# EAGLE library part TDA8496 (library Audio-Power-amlifier V.2.0)
The UTC TDA8496 is a stereo 5+5W class AB power amplifier with mute and dc volume control, assembled in the HZIP-15A/B/D package. It is designed for high quality sound, LCD TV or LCD Monitor applications.
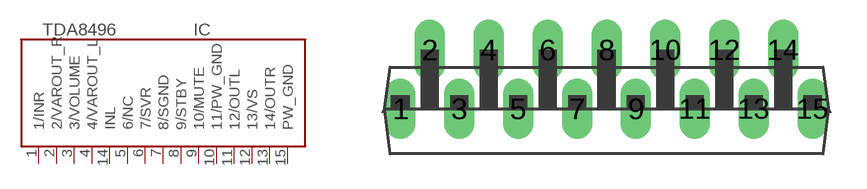
[diagram p214: symbol with the pads of HZIP015-P-0745A-1,27; footprint HZIP015-P-0745A-1,27]

Designator prefix IC

## TDA8496  [HZIP015-P-0745A-1,27]
1  1/INR  in
2  2/VAROUT_R  out
3  3/VOLUME  in
4  4/VAROUT_L  out
5  6/NC  nc
6  7/SVR
7  8/SGND  pwr
8  9/STBY  in
9  10/MUTE  in
10  11/PW_GND  pwr
11  12/OUTL  out
12  13/VS  pwr
13  14/OUTR  out
14  INL  in
15  PW_GND  pwr

## Footprint HZIP015-P-0745A-1,27 (pad centres in mm)
drill 0.8 long: 1 -8.89,-1.27; 2 -7.62,1.27; 3 -6.35,-1.27; 4 -5.08,1.27; 5 -3.81,-1.27; 6 -2.54,1.27; 7 -1.27,-1.27; 8 0,1.27; 9 1.27,-1.27; 10 2.54,1.27; 11 3.81,-1.27; 12 5.08,1.27; 13 6.35,-1.27; 14 7.62,1.27; 15 8.89,-1.27